# EAGLE library part 53047-1310 (library molex-pico)
HEADER
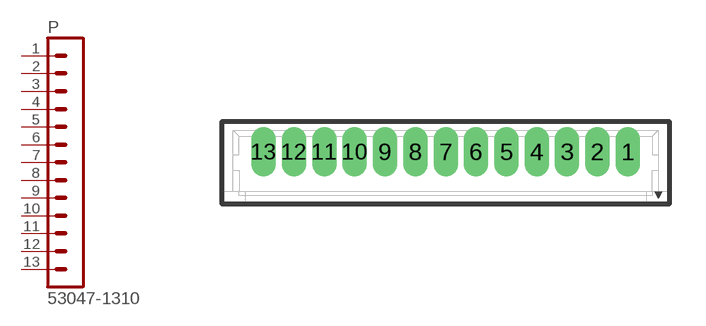
[diagram p7: symbol with the pads of 53047-1310; footprint 53047-1310]

Designator prefix P

## 53047-1310  [53047-1310]
1  1  pas
2  2  pas
3  3  pas
4  4  pas
5  5  pas
6  6  pas
7  7  pas
8  8  pas
9  9  pas
10  10  pas
11  11  pas
12  12  pas
13  13  pas

## Footprint 53047-1310 (pad centres in mm)
HEADER
drill 0.508 long: 1 7.5,0; 2 6.25,0; 3 5,0; 4 3.75,0; 5 2.5,0; 6 1.25,0; 7 0,0; 8 -1.25,0; 9 -2.5,0; 10 -3.75,0; 11 -5,0; 12 -6.25,0; 13 -7.5,0